# EAGLE library part RADIO_RFMXX (library homemade-hardware)
RFM69HCW <https://www.digikey.com/product-detail/en/sparkfun-electronics/COM-13909/1568-1394-ND/6023504>: - ISM Band RF Transceiver - 433MHz or 915MHz (868MHz in EU) RFM95W <https://www.digikey.com/product-detail/en/rf-solutions/RFM95W-915S2/RFM95W-915S2-ND/6564923>: - LoRa Transceiver - 915MHz (868MHz in EU)
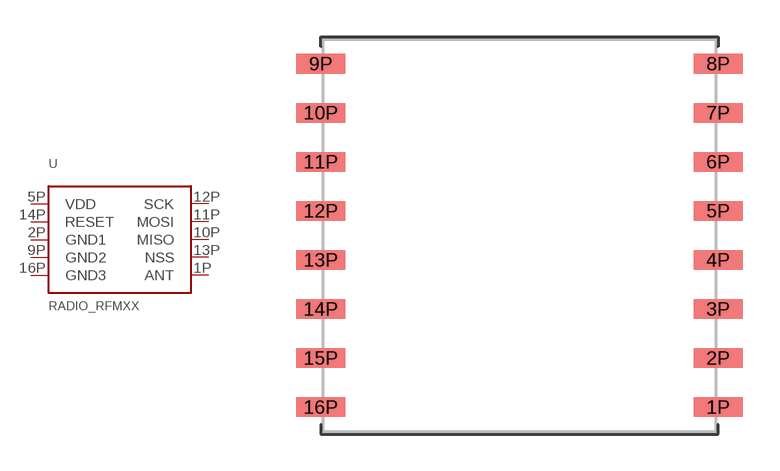
[diagram p22: symbol with the pads of RFMXX_SMT; footprint RFMXX_SMT]

Designator prefix U

## RADIO_RFMXX_SMT  [RFMXX_SMT]
1P  ANT
2P  GND1  pwr
5P  VDD  pwr
9P  GND2  pwr
10P  MISO  out
11P  MOSI  in
12P  SCK  in
13P  NSS  in
14P  RESET  in
16P  GND3  pwr

## Footprint RFMXX_SMT (pad centres in mm)
smd 2 x 0.8: 1P 8.1,-7; 2P 8.1,-5; 3P 8.1,-3; 4P 8.1,-1; 5P 8.1,1; 6P 8.1,3; 7P 8.1,5; 8P 8.1,7; 9P -8.1,7; 10P -8.1,5; 11P -8.1,3; 12P -8.1,1; 13P -8.1,-1; 14P -8.1,-3; 15P -8.1,-5; 16P -8.1,-7